# Altium footprint library K60_144.PcbLib: 19 footprints (part 1 of 2)
Each footprint in its own frame and in the unit in brackets; x right, y up, seen from the top. Pads: shape width x height; smd on the part's side, far side on the other; paste and mask are expansions set on the pad; w line width, h text height; cw(c..) or ccw(c..) is an arc to the next point about the centre after c.
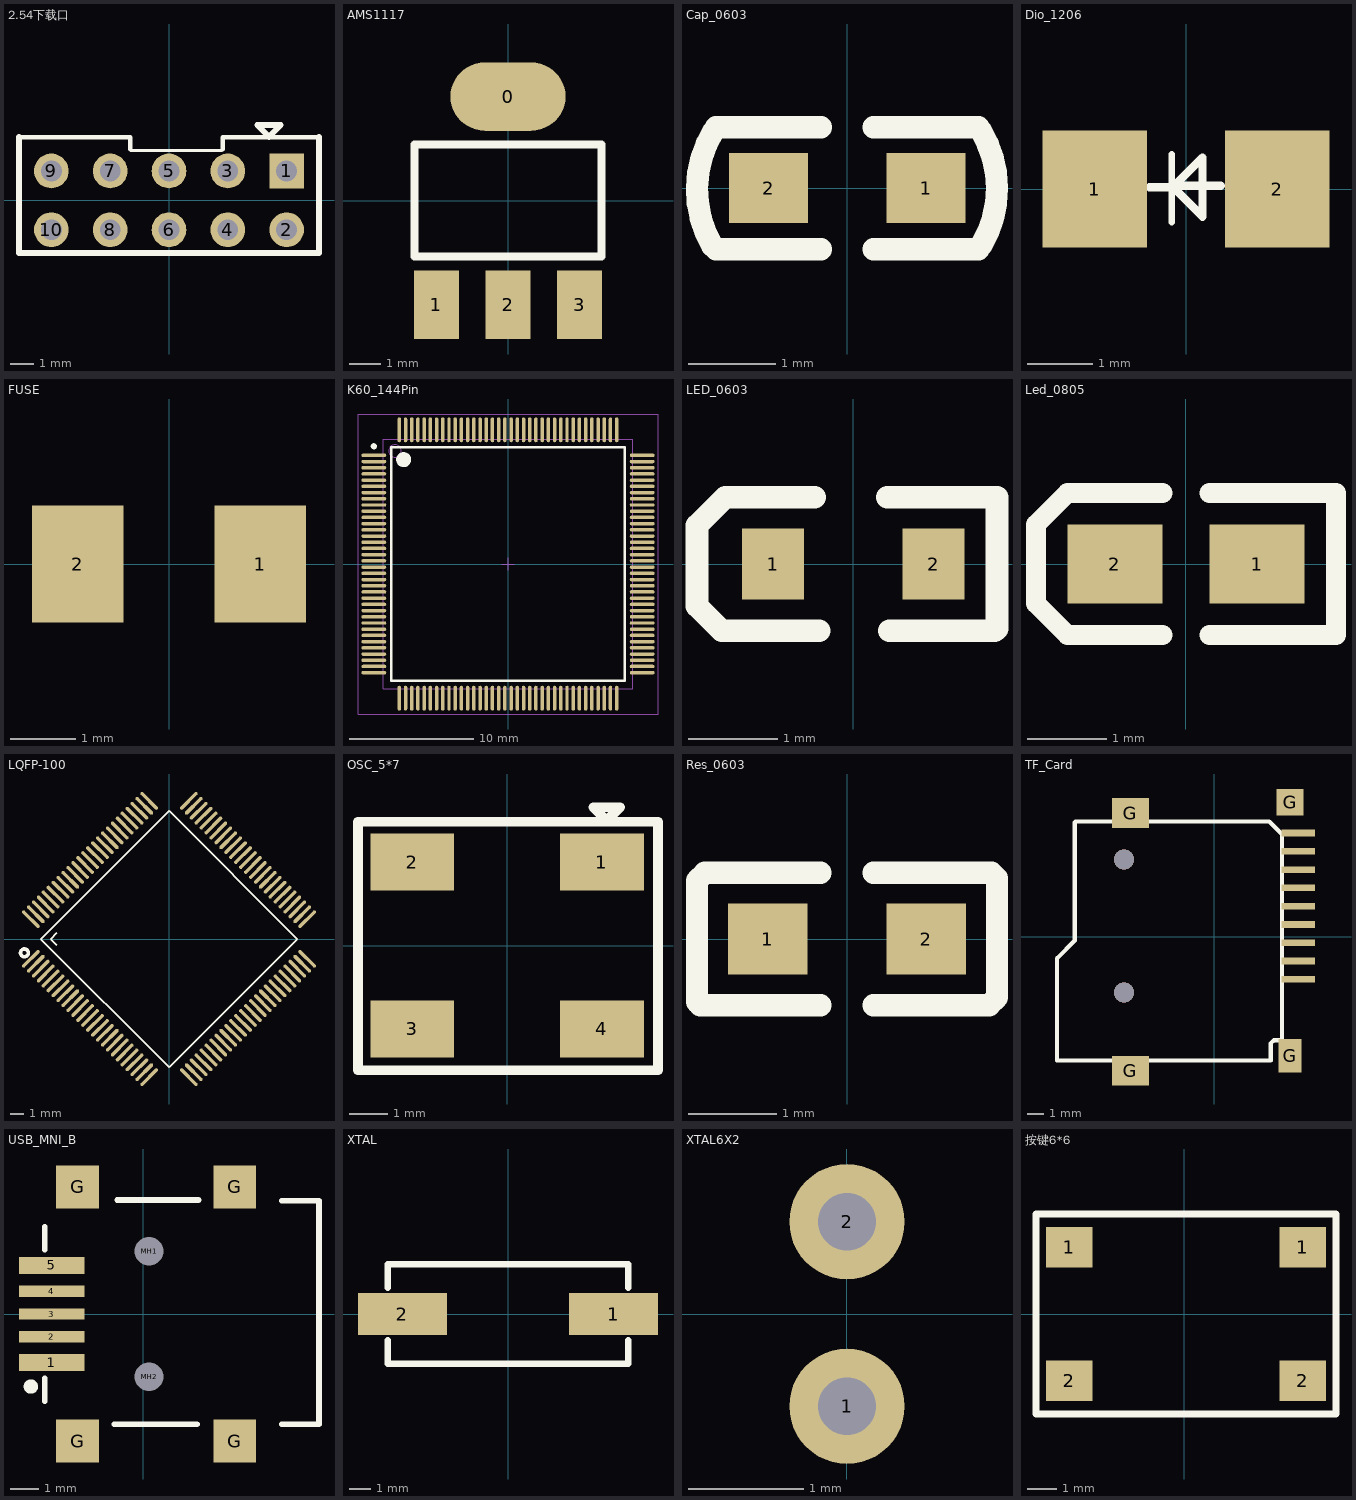
[diagram p0: the footprints below, top view; thin cyan lines are the x and y axes]

## 2.54下载口 [mm]
pads (10):
  rect 1.5x1.5 hole 0.9: 1(5.08,1.27)
  round 1.5 hole 0.9: 2(5.08,-1.27) 3(2.54,1.27) 4(2.54,-1.27) 5(0,1.27) 6(0,-1.27) 7(-2.54,1.27) 8(-2.54,-1.27) 9(-5.08,1.27) 10(-5.08,-1.27)
Top Overlay:
  lines w0.127: -1.651,2.159 2.286,2.159
  lines w0.2: -6.477,2.731 -1.676,2.731 -1.676,2.206 ; 2.324,2.206 2.324,2.731 6.477,2.731
  lines w0.254: -6.477,2.731 -6.477,-2.269 6.477,-2.269 6.477,2.731 ; 3.81,3.251 4.826,3.251 4.318,2.743 3.81,3.251
3D body: height 8.5, standoff -3.5, extent -6.375,-2.438 6.325,2.642

## AMS1117 [mm]
pads (4):
  oval 3.7x2.2 smd: 0(0,3.348)
  rect 1.45x2.2 smd: 1(-2.3,-3.347) 2(0,-3.347) 3(2.3,-3.347)
Top Overlay:
  lines w0.254: -3,-1.8 3,-1.8 3,1.8 -3,1.8 -3,-1.8
3D body: height 1.85, standoff -0.01, extent -3.302,-3.57 3.198,3.429

## Cap_0603 [mm]
pads (2):
  rect 0.9x0.8 smd: 1(0.9,0) 2(-0.9,0)
Top Overlay:
  lines w0.254: -1.542,-0.658 cw(c-0.444,-0.014) -1.524,0.66 ; -1.5,-0.697 -0.3,-0.697 ; -1.5,0.697 -0.3,0.697 ; 0.3,-0.697 1.5,-0.697 ; 0.3,0.697 1.5,0.697 ; 1.524,0.66 cw(c0.438,-0.003) 1.529,-0.659
3D body: height 0.89, standoff -0.01, extent -1.3,-0.492 1.3,0.508

## Dio_1206 [mm]
pads (2):
  rect 1.6x1.8 smd: 1(-1.4,0) 2(1.4,0)
Top Overlay:
  lines w0.1: -0.22,-0.508 -0.22,0.533
  lines w0.127: -0.559,0.025 -0.22,0.025 ; -0.178,0.051 0.254,0.483 0.254,-0.423 -0.22,0.051 0.533,0.051
3D body: height 1.53, standoff 0.08, extent -1.775,-0.739 1.725,0.711

## FUSE [mm] "1206"
pads (2):
  rect 1.397x1.8 smd: 1(1.4,0) 2(-1.4,0)
3D body: height 1.53, standoff 0.08, extent -1.826,-0.66 1.674,0.79

## K60_144Pin [mm]
height 1.6
pads (144):
  oval 2x0.279 smd: 1(-10.8,8.75) 2(-10.8,8.25) 3(-10.8,7.75) 4(-10.8,7.25) 5(-10.8,6.75) 6(-10.8,6.25) 7(-10.8,5.75) 8(-10.8,5.25) 9(-10.8,4.75) 10(-10.8,4.25) 11(-10.8,3.75) 12(-10.8,3.25) 13(-10.8,2.75) 14(-10.8,2.25) 15(-10.8,1.75) 16(-10.8,1.25) 17(-10.8,0.75) 18(-10.8,0.25) 19(-10.8,-0.25) 20(-10.8,-0.75) 21(-10.8,-1.25) 22(-10.8,-1.75) 23(-10.8,-2.25) 24(-10.8,-2.75) 25(-10.8,-3.25) 26(-10.8,-3.75) 27(-10.8,-4.25) 28(-10.8,-4.75) 29(-10.8,-5.25) 30(-10.8,-5.75) 31(-10.8,-6.25) 32(-10.8,-6.75) 33(-10.8,-7.25) 34(-10.8,-7.75) 35(-10.8,-8.25) 36(-10.8,-8.75) 73(10.8,-8.75) 74(10.8,-8.25) 75(10.8,-7.75) 76(10.8,-7.25) 77(10.8,-6.75) 78(10.8,-6.25) 79(10.8,-5.75) 80(10.8,-5.25) 81(10.8,-4.75) 82(10.8,-4.25) 83(10.8,-3.75) 84(10.8,-3.25) 85(10.8,-2.75) 86(10.8,-2.25) 87(10.8,-1.75) 88(10.8,-1.25) 89(10.8,-0.75) 90(10.8,-0.25) 91(10.8,0.25) 92(10.8,0.75) 93(10.8,1.25) 94(10.8,1.75) 95(10.8,2.25) 96(10.8,2.75) 97(10.8,3.25) 98(10.8,3.75) 99(10.8,4.25) 100(10.8,4.75) 101(10.8,5.25) 102(10.8,5.75) 103(10.8,6.25) 104(10.8,6.75) 105(10.8,7.25) 106(10.8,7.75) 107(10.8,8.25) 108(10.8,8.75)
  oval 0.279x2 smd: 37(-8.75,-10.8) 38(-8.25,-10.8) 39(-7.75,-10.8) 40(-7.25,-10.8) 41(-6.75,-10.8) 42(-6.25,-10.8) 43(-5.75,-10.8) 44(-5.25,-10.8) 45(-4.75,-10.8) 46(-4.25,-10.8) 47(-3.75,-10.8) 48(-3.25,-10.8) 49(-2.75,-10.8) 50(-2.25,-10.8) 51(-1.75,-10.8) 52(-1.25,-10.8) 53(-0.75,-10.8) 54(-0.25,-10.8) 55(0.25,-10.8) 56(0.75,-10.8) 57(1.25,-10.8) 58(1.75,-10.8) 59(2.25,-10.8) 60(2.75,-10.8) 61(3.25,-10.8) 62(3.75,-10.8) 63(4.25,-10.8) 64(4.75,-10.8) 65(5.25,-10.8) 66(5.75,-10.8) 67(6.25,-10.8) 68(6.75,-10.8) 69(7.25,-10.8) 70(7.75,-10.8) 71(8.25,-10.8) 72(8.75,-10.8) 109(8.75,10.8) 110(8.25,10.8) 111(7.75,10.8) 112(7.25,10.8) 113(6.75,10.8) 114(6.25,10.8) 115(5.75,10.8) 116(5.25,10.8) 117(4.75,10.8) 118(4.25,10.8) 119(3.75,10.8) 120(3.25,10.8) 121(2.75,10.8) 122(2.25,10.8) 123(1.75,10.8) 124(1.25,10.8) 125(0.75,10.8) 126(0.25,10.8) 127(-0.25,10.8) 128(-0.75,10.8) 129(-1.25,10.8) 130(-1.75,10.8) 131(-2.25,10.8) 132(-2.75,10.8) 133(-3.25,10.8) 134(-3.75,10.8) 135(-4.25,10.8) 136(-4.75,10.8) 137(-5.25,10.8) 138(-5.75,10.8) 139(-6.25,10.8) 140(-6.75,10.8) 141(-7.25,10.8) 142(-7.75,10.8) 143(-8.25,10.8) 144(-8.75,10.8)
Top Overlay:
  circle w0.6: c-8.4,8.4 r0.3
  circle w0.25: c-10.8,9.475 r0.125
  lines w0.2: -9.4,-9.4 9.4,-9.4 9.4,9.4 -9.4,9.4 -9.4,-9.4
Mechanical 13:
  circle w0.1: c-9.1,9.1 r0.5
  lines w0.1: -10.05,-10.05 10.05,-10.05 10.05,10.05 -10.05,10.05 -10.05,-10.05
Mechanical 15:
  lines w0.1: -0.5,0 0.5,0 ; 0,-0.5 0,0.5 ; -12.075,-12.075 12.075,-12.075 12.075,12.075 -12.075,12.075 -12.075,-12.075
3D body: height 1.4, standoff -0.1, extent -10.951,-11 11.049,11

## LED_0603 [mm]
pads (2):
  rect 0.7x0.8 smd: 1(-0.9,0) 2(0.9,0)
Top Overlay:
  lines w0.254: -0.432,0.75 -1.434,0.75 -1.753,0.432 -1.753,-0.471 -1.473,-0.75 -0.381,-0.75 ; 0.381,0.75 1.612,0.75 1.612,-0.725 1.587,-0.75 0.406,-0.75
3D body: height 0.6, standoff 0, extent -0.835,-0.394 0.785,0.406

## Led_0805 [mm]
pads (2):
  rect 1.2x1 smd: 1(0.9,0) 2(-0.9,0)
Top Overlay:
  lines w0.254: -0.3,-0.9 -1.5,-0.9 -1.9,-0.5 ; -0.3,0.9 -1.5,0.9 -1.9,0.5 ; 0.3,-0.9 1.9,-0.9 1.9,0.9 0.3,0.9 ; -1.9,-0.5 -1.9,0.5 ; -1.9,-0.5 -1.9,-0.5 ; -1.9,0.5 -1.9,0.5
3D body: height 1.1, standoff 0, extent -1.035,-0.66 0.985,0.59

## LQFP-100 [mm]
pads (100):
  oval 1.7x0.25 smd rot 45: 1(-9.899,-1.414) 2(-9.546,-1.768) 3(-9.192,-2.121) 4(-8.839,-2.475) 5(-8.485,-2.828) 6(-8.132,-3.182) 7(-7.778,-3.536) 8(-7.425,-3.889) 9(-7.071,-4.243) 10(-6.718,-4.596) 11(-6.364,-4.95) 12(-6.01,-5.303) 13(-5.657,-5.657) 14(-5.303,-6.01) 15(-4.95,-6.364) 16(-4.596,-6.718) 17(-4.243,-7.071) 18(-3.889,-7.425) 19(-3.536,-7.778) 20(-3.182,-8.132) 21(-2.828,-8.485) 22(-2.475,-8.839) 23(-2.121,-9.192) 24(-1.768,-9.546) 25(-1.414,-9.899) 51(9.899,1.414) 52(9.546,1.768) 53(9.192,2.121) 54(8.839,2.475) 55(8.485,2.828) 56(8.132,3.182) 57(7.778,3.536) 58(7.425,3.889) 59(7.071,4.243) 60(6.718,4.596) 61(6.364,4.95) 62(6.01,5.303) 63(5.657,5.657) 64(5.303,6.01) 65(4.95,6.364) 66(4.596,6.718) 67(4.243,7.071) 68(3.889,7.425) 69(3.536,7.778) 70(3.182,8.132) 71(2.828,8.485) 72(2.475,8.839) 73(2.121,9.192) 74(1.768,9.546) 75(1.414,9.899)
  oval 1.7x0.25 smd rot 135: 26(1.414,-9.899) 27(1.768,-9.546) 28(2.121,-9.192) 29(2.475,-8.839) 30(2.828,-8.485) 31(3.182,-8.132) 32(3.536,-7.778) 33(3.889,-7.425) 34(4.243,-7.071) 35(4.596,-6.718) 36(4.95,-6.364) 37(5.303,-6.01) 38(5.657,-5.657) 39(6.01,-5.303) 40(6.364,-4.95) 41(6.718,-4.596) 42(7.071,-4.243) 43(7.425,-3.889) 44(7.778,-3.536) 45(8.132,-3.182) 46(8.485,-2.828) 47(8.839,-2.475) 48(9.192,-2.121) 49(9.546,-1.768) 50(9.899,-1.414) 76(-1.414,9.899) 77(-1.768,9.546) 78(-2.121,9.192) 79(-2.475,8.839) 80(-2.828,8.485) 81(-3.182,8.132) 82(-3.536,7.778) 83(-3.889,7.425) 84(-4.243,7.071) 85(-4.596,6.718) 86(-4.95,6.364) 87(-5.303,6.01) 88(-5.657,5.657) 89(-6.01,5.303) 90(-6.364,4.95) 91(-6.718,4.596) 92(-7.071,4.243) 93(-7.425,3.889) 94(-7.778,3.536) 95(-8.132,3.182) 96(-8.485,2.828) 97(-8.839,2.475) 98(-9.192,2.121) 99(-9.546,1.768) 100(-9.899,1.414)
Top Overlay:
  circle w0.254: c-10.362,-0.993 r0.28
  lines w0.1: -8.043,-0.442 -8.485,0 -8.043,0.442 ; -9.192,0 0,9.192 9.192,0 0,-9.192 -9.192,0
3D body: height 1.5, standoff 0, extent -11.619,-11.619 11.998,11.998

## OSC_5*7 [mm]
pads (4):
  rect 2.2x1.5 smd: 1(2.49,2.19) 2(-2.49,2.19) 3(-2.49,-2.19) 4(2.49,-2.19)
Top Overlay:
  lines w0.254: -3.912,-3.277 -3.912,3.251 3.962,3.251 3.962,-3.277 -3.912,-3.277 ; 2.261,3.632 2.972,3.632 2.616,3.277 2.261,3.632
3D body: height 1, standoff -0.01, extent -3.65,-2.362 3.65,2.438

## Res_0603 [mm]
pads (2):
  rect 0.9x0.8 smd: 1(-0.9,0) 2(0.9,0)
Top Overlay:
  lines w0.254: -0.3,-0.75 -1.663,-0.75 -1.7,-0.713 -1.7,0.662 -1.612,0.75 -0.3,0.75 ; 0.3,-0.75 1.612,-0.75 1.7,-0.662 1.7,0.688 1.638,0.75 0.3,0.75
3D body: height 0.53, standoff 0, extent -1.3,-0.492 1.3,0.508

## TF_Card [mm]
pads (13):
  rect 2x0.4 smd: 1(5.05,-2.575) 2(5.05,-1.475) 3(5.05,-0.375) 4(5.05,0.725) 5(5.05,1.825) 6(5.05,2.925) 7(5.05,4.025) 8(5.05,5.125) 9(5.05,6.225)
  rect 2.2x1.8 smd: G(-5.05,-8.075) G(-5.05,7.425)
  rect 1.4x2 smd: G(4.55,-7.175)
  rect 1.6x1.6 smd: G(4.55,8.075)
via -5.45,-3.375 diameter 1.2 hole 1.2
via -5.45,4.625 diameter 1.2 hole 1.2
Top Overlay:
  lines w0.254: -9.47,-7.455 -9.47,-1.313 -8.403,-0.246 -8.403,6.866 -8.355,6.914 3.302,6.914 4.064,6.152 4.064,6.025 4.064,-6.24 3.586,-6.24 3.383,-6.443 3.383,-7.459 -9.466,-7.459
3D body: height 0.1, standoff -2.37, extent -9.368,-8.356 5.842,7.95

## USB_MNI_B [mm]
pads (11):
  rect 2.3x0.6 smd: 1(-3.2,-1.7) 5(-3.2,1.7)
  rect 2.3x0.4 smd: 2(-3.2,-0.8) 3(-3.2,0) 4(-3.2,0.8)
  rect 1.5x1.5 smd: G(-2.3,-4.45) G(-2.3,4.45) G(3.2,-4.45) G(3.2,4.45)
  round 0.6 hole 1 unplated: MH1(0.2,2.2) MH2(0.2,-2.2)
Top Overlay:
  circle w0.25: c-3.935,-2.54 r0.125
  lines w0.2: -3.45,-3.05 -3.45,-2.25 ; -3.45,2.25 -3.45,3.05 ; -1.016,-3.861 1.88,-3.861 ; -0.914,3.988 1.93,3.988 ; 4.85,-3.861 6.15,-3.861 6.15,3.962 4.85,3.962
Mechanical 13:
  lines w0.1: 6.147,-3.861 6.147,3.988
3D body: height 3.95, standoff -1, extent -3.142,-5.35 6.058,5.35

## XTAL [mm]
pads (2):
  rect 4.216x2 smd: 1(5,0) 2(-5,0)
Top Overlay:
  lines w0.305: -5.69,-1.245 -5.69,-2.362 5.69,-2.362 5.69,-1.245 ; -5.69,1.245 -5.69,2.362 5.69,2.362 5.69,1.245

## XTAL6X2 [mm]
pads (2):
  round 1 hole 0.5: 1(0,-0.8) 2(0,0.8)

## 按键6*6 [mm]
pads (4):
  rect 1.6x1.4 smd: 1(-3.937,2.286) 1(4.064,2.286) 2(-3.937,-2.286) 2(4.064,-2.286)
Top Overlay:
  lines w0.254: -5.08,-3.429 5.207,-3.429 5.207,3.429 -5.08,3.429 -5.08,-3.429
3D body: height 1, standoff -0.01, extent -3.65,-2.362 3.65,2.438